# Altium footprint library PcbLib.PcbLib: 35 footprints (part 2 of 3)
Each footprint in its own frame and in the unit in brackets; x right, y up, seen from the top. Pads: shape width x height; smd on the part's side, far side on the other; paste and mask are expansions set on the pad; w line width, h text height; cw(c..) or ccw(c..) is an arc to the next point about the centre after c.
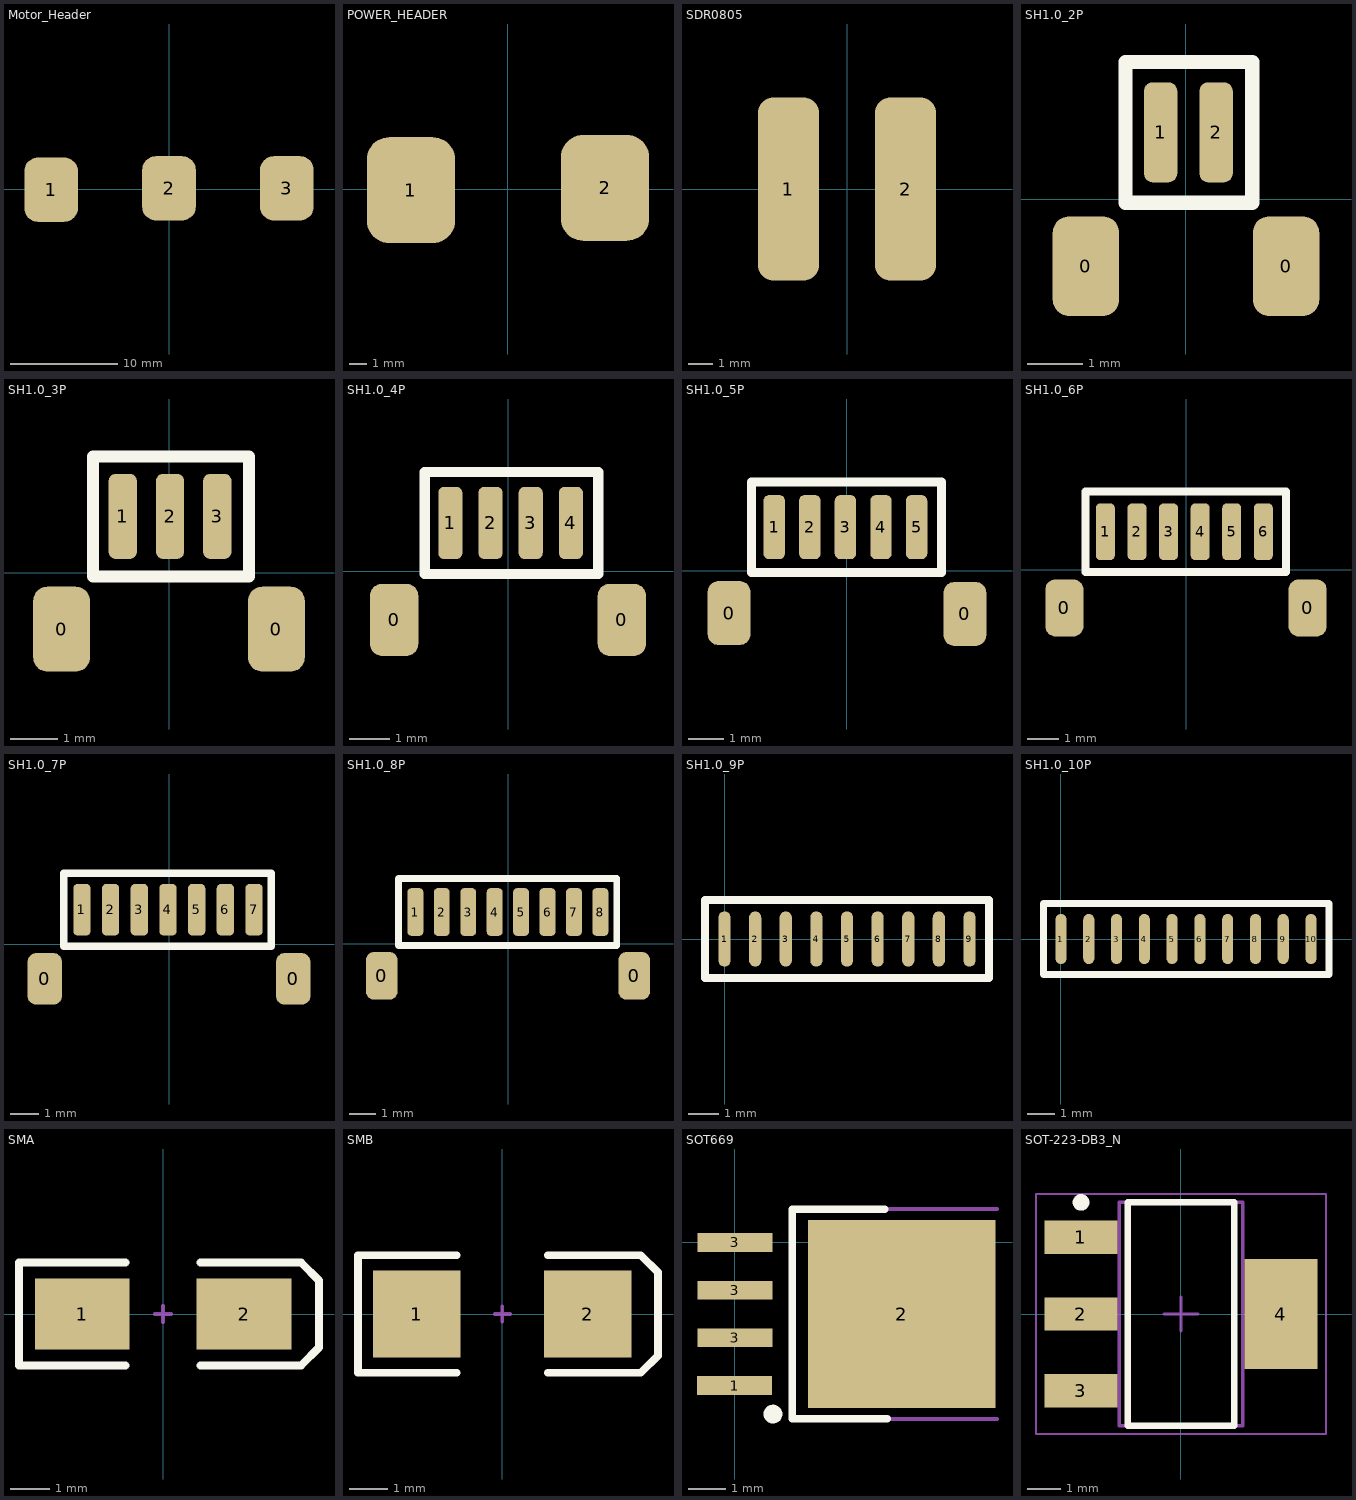
[diagram p1: the footprints below, top view; thin cyan lines are the x and y axes]

## Motor_Header [mm] "Motor_Header"
pads (3):
  rrect50% 5x6 smd: 1(-11,-0.064) 2(0,0.064) 3(11,0.064)

## POWER_HEADER [mm] "POWER_HEADER"
pads (2):
  rrect50% 5x6 smd: 1(-5.5,-0.064) 2(5.5,0.064)

## SDR0805 [mm] "SDR0805"
pads (2):
  rrect50% 2.5x7.5 smd: 1(-2.4,0) 2(2.4,0)
3D body "User Library-SDR0805.STEP": height 5.05, standoff 0, extent -3.677,-3.75 3.677,3.75

## SH1.0_2P [mm] "SH1.0_2P"
pads (4):
  rrect50% 1.2x1.8 smd: 0(-1.803,-1.206) 0(1.803,-1.206)
  rrect50% 0.6x1.8 smd: 1(-0.457,1.206) 2(0.543,1.206)
Top Overlay:
  lines w0.254: -1.092,-0.064 1.194,-0.064 1.194,2.476 -1.092,2.476 -1.092,-0.064

## SH1.0_3P [mm] "SH1.0_3P"
pads (5):
  rrect50% 1.2x1.8 smd: 0(-2.273,-1.194) 0(2.273,-1.194)
  rrect50% 0.6x1.8 smd: 1(-0.978,1.194) 2(0.022,1.194) 3(1.022,1.194)
Top Overlay:
  lines w0.254: -1.613,-0.076 1.689,-0.076 1.689,2.464 -1.613,2.464 -1.613,-0.076

## SH1.0_4P [mm] "SH1.0_4P"
pads (6):
  rrect50% 1.2x1.8 smd: 0(-2.832,-1.206) 0(2.832,-1.206)
  rrect50% 0.6x1.8 smd: 1(-1.435,1.206) 2(-0.435,1.206) 3(0.565,1.206) 4(1.565,1.206)
Top Overlay:
  lines w0.254: -2.07,-0.064 2.248,-0.064 2.248,2.476 -2.07,2.476 -2.07,-0.064

## SH1.0_5P [mm] "SH1.0_5P"
pads (7):
  rrect50% 1.2x1.8 smd: 0(-3.315,-1.194) 0(3.315,-1.219)
  rrect50% 0.6x1.8 smd: 1(-2.045,1.219) 2(-1.045,1.219) 3(-0.045,1.219) 4(0.955,1.219) 5(1.955,1.219)
Top Overlay:
  lines w0.254: -2.68,-0.051 2.654,-0.051 2.654,2.489 -2.68,2.489 -2.68,-0.051
3D body "User Library-JST - BM05B-SRSS-TB (SH SERIES - 1_0mm PITCH WIRE-TO-BOARD, SMT).STEP": height 4.25, standoff 0, extent -3.538,-1.93 3.462,1.669

## SH1.0_6P [mm] "SH1.0_6P"
pads (8):
  rrect50% 1.2x1.8 smd: 0(-3.848,-1.206) 0(3.848,-1.206)
  rrect50% 0.6x1.8 smd: 1(-2.553,1.206) 2(-1.553,1.206) 3(-0.553,1.206) 4(0.447,1.206) 5(1.447,1.206) 6(2.447,1.206)
Top Overlay:
  lines w0.254: -3.188,-0.064 3.162,-0.064 3.162,2.476 -3.188,2.476 -3.188,-0.064
3D body "User Library-JST - BM06B-SRSS-TB (SH SERIES - 1_0mm PITCH WIRE-TO-BOARD, SMT).STEP": height 4.25, standoff 0, extent -4.051,-1.956 3.949,1.644

## SH1.0_7P [mm] "SH1.0_7P"
pads (9):
  rrect50% 1.2x1.8 smd: 0(-4.331,-1.206) 0(4.331,-1.206)
  rrect50% 0.6x1.8 smd: 1(-3.035,1.206) 2(-2.035,1.206) 3(-1.035,1.206) 4(-0.035,1.206) 5(0.965,1.206) 6(1.965,1.206) 7(2.965,1.206)
Top Overlay:
  lines w0.254: -3.67,-0.064 3.569,-0.064 3.569,2.476 -3.67,2.476 -3.67,-0.064

## SH1.0_8P [mm] "SH1.0_8P"
pads (10):
  rrect50% 1.2x1.8 smd: 0(-4.775,-1.206) 0(4.775,-1.206)
  rrect50% 0.6x1.8 smd: 1(-3.505,1.206) 2(-2.505,1.206) 3(-1.505,1.206) 4(-0.505,1.206) 5(0.495,1.206) 6(1.495,1.206) 7(2.495,1.206) 8(3.495,1.206)
Top Overlay:
  lines w0.254: -4.14,-0.064 4.115,-0.064 4.115,2.476 -4.14,2.476 -4.14,-0.064

## SH1.0_9P [mm] "SH1.0_9P"
pads (9):
  oval 0.4x1.8 smd: 1(0,0) 2(1,0) 3(2,0) 4(3,0) 5(4,0) 6(5,0) 7(6,0) 8(7,0) 9(8,0)
Top Overlay:
  lines w0.254: -0.635,-1.27 8.636,-1.27 8.636,1.27 -0.635,1.27 -0.635,-1.27

## SH1.0_10P [mm] "SH1.0_10P"
pads (10):
  oval 0.4x1.8 smd: 1(0,0) 2(1,0) 3(2,0) 4(3,0) 5(4,0) 6(5,0) 7(6,0) 8(7,0) 9(8,0) 10(9,0)
Top Overlay:
  lines w0.254: -0.635,-1.27 9.652,-1.27 9.652,1.27 -0.635,1.27 -0.635,-1.27

## SMA [mm] "DO-214-AC/SMA; 2 C-Bend Leads; Body 5 x 2.7 mm, inc. leads (LxW)"
height 2.44
pads (2):
  rect 2.4x1.8 smd: 1(-2.05,0) 2(2.05,0)
Top Overlay:
  lines w0.2: -0.95,-1.3 -3.65,-1.3 -3.65,1.3 -0.95,1.3 ; 0.95,-1.3 3.5,-1.3 3.95,-0.85 3.95,0.85 3.5,1.3 0.95,1.3
Mechanical 1:
  lines w0.1: -0.2,0 0.2,0 ; 0,-0.2 0,0.2
3D body "User Library-DIOM5528X26.STEP": height 2.6, standoff 0.03, extent -2.75,-1.4 2.75,1.4

## SMB [mm] "DO-214-AA/SMB; 2 C-Bend Leads; Body 5.3 x 3.6 mm, inc. leads (LxW)"
height 2.54
pads (2):
  rect 2.3x2.3 smd: 1(-2.25,0) 2(2.25,0)
Top Overlay:
  lines w0.2: -1.2,-1.55 -3.8,-1.55 -3.8,1.55 -1.2,1.55 ; 1.2,-1.55 3.65,-1.55 4.1,-1.1 4.1,1.1 3.65,1.55 1.2,1.55
Mechanical 1:
  lines w0.1: -0.2,0 0.2,0 ; 0,-0.2 0,0.2
3D body "User Library-DIOM5539X24.STEP": height 2.45, standoff 0.03, extent -2.75,-1.95 2.75,1.95

## SOT669 [mm] "SOT669"
pads (5):
  rect 2x0.5 smd: 1(-0.007,-3.81) 3(0,-2.54) 3(0,-1.27) 3(0,0)
  rect 5x5 smd: 2(4.445,-1.905)
Top Overlay:
  circle w0.25: c1.016,-4.572 r0.125
  lines w0.2: 3.999,0.889 1.524,0.889 1.524,-4.699 4.064,-4.699
Mechanical 13:
  lines w0.1: 6.985,-4.699 1.524,-4.699 1.524,0.889 6.985,0.889
Mechanical 15:
  lines w0.1: 5.85,-3.85 6.85,-3.85 ; 6.35,-4.35 6.35,-3.35
3D body "User Library-SOT669.step": height 1.2, standoff 0, extent -0.37,-4.405 6.398,0.595

## SOT-223-DB3_N [mm] "SOT223, 4-Leads, Body 6.5x3.5mm, Pitch 2.3mm, Lead Span 7mm, IPC Medium Density"
height 1.8
pads (4):
  rect 2.2x1 smd: 1(-3,2.3) 2(-3,0) 3(-3,-2.3)
  rect 2.2x3.3 smd: 4(3,0)
Top Overlay:
  circle w0.25: c-3,3.35 r0.125
  lines w0.2: -1.6,-3.35 -1.6,3.35 1.6,3.35 1.6,-3.35 -1.6,-3.35
Mechanical 13:
  lines w0.1: -1.85,-3.35 -1.85,3.35 1.85,3.35 1.85,-3.35 -1.85,-3.35
Mechanical 15:
  lines w0.05: -4.35,-3.6 -4.35,3.6 4.35,3.6 4.35,-3.6 -4.35,-3.6
  lines w0.1: -0.5,0 0.5,0 ; 0,-0.5 0,0.5
3D body "User Library-SOT223-3.STEP": height 1.7, standoff 0, extent -3.5,-3.25 3.5,3.25